# EAGLE library part TDA1563Q (library Audio-Power-amlifier V.2.0)
The TDA1563Q is a monolithic power amplifier in a 17-lead DIL-bent-SIL plastic power package. It contains two identical 25 Wamplifiers. The dissipation is minimized by switching from SE to BTL mode when a higher output voltage swing is needed. The device is primarily developed for car radio applications.
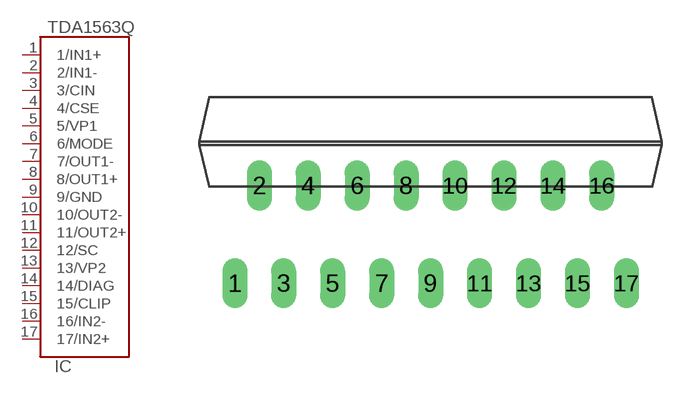
[diagram p227: symbol with the pads of SOT243-1; footprint SOT243-1]

Designator prefix IC

## TDA1563Q  [SOT243-1]
1  1/IN1+  in
2  2/IN1-  in
3  3/CIN  in
4  4/CSE
5  5/VP1  pwr
6  6/MODE  in
7  7/OUT1-  out
8  8/OUT1+  out
9  9/GND  pwr
10  10/OUT2-  out
11  11/OUT2+  out
12  12/SC
13  13/VP2  pwr
14  14/DIAG
15  15/CLIP
16  16/IN2-  in
17  17/IN2+  in

## Footprint SOT243-1 (pad centres in mm)
DBS17P: plastic DIL-bent-SIL power package; 17 leads (lead length 7.7 mm)
drill 0.8 long: 1 -10.16,-5.08; 2 -8.89,0; 3 -7.62,-5.08; 4 -6.35,0; 5 -5.08,-5.08; 6 -3.81,0; 7 -2.54,-5.08; 8 -1.27,0; 9 0,-5.08; 10 1.27,0; 11 2.54,-5.08; 12 3.81,0; 13 5.08,-5.08; 14 6.35,0; 15 7.62,-5.08; 16 8.89,0; 17 10.17,-5.08